# EAGLE library part TXB0108 (library ck)
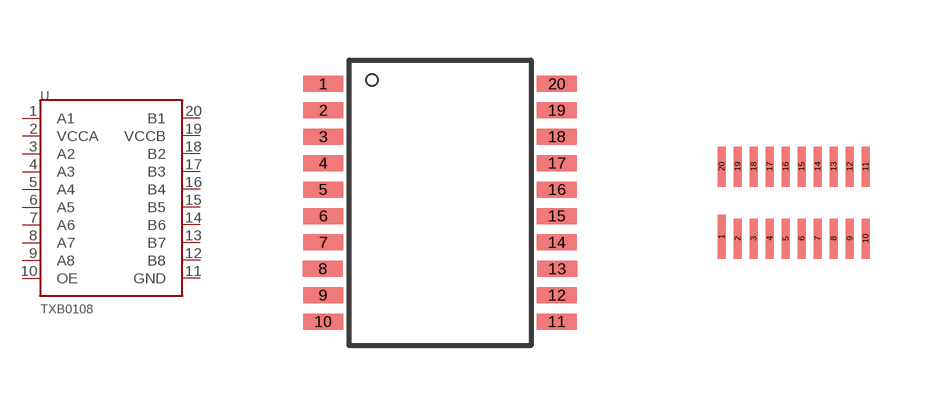
[diagram p7: symbol with the pads of TSSOP20; footprints TSSOP20, SON20]

Designator prefix U

## TXB0108PW  [TSSOP20]
1  A1
2  VCCA  pwr
3  A2
4  A3
5  A4
6  A5
7  A6
8  A7
9  A8
10  OE
11  GND  pwr
12  B8
13  B7
14  B6
15  B5
16  B4
17  B3
18  B2
19  VCCB  pwr
20  B1

## TXB0108DQS  [SON20]
1  A1
2  A2
3  A3
4  A4
5  VCCA  pwr
6  OE
7  A5
8  A6
9  A7
10  A8
11  B8
12  B7
13  B6
14  B5
15  GND  pwr
16  VCCB  pwr
17  B4
18  B3
19  B2
20  B1

## Footprint TSSOP20 (pad centres in mm)
smd 1 x 0.4: 1 -2.937,2.693; 2 -2.937,2.032; 3 -2.937,1.372; 4 -2.937,0.712; 5 -2.937,0.051; 6 -2.937,-0.609; 7 -2.937,-1.27; 8 -2.943,-1.93; 9 -2.937,-2.59; 10 -2.937,-3.251; 11 2.905,-3.251; 12 2.905,-2.59; 13 2.911,-1.93; 14 2.905,-1.27; 15 2.905,-0.609; 16 2.905,0.051; 17 2.905,0.712; 18 2.905,1.372; 19 2.905,2.032; 20 2.905,2.693

## Footprint SON20 (pad centres in mm)
smd 0.2 x 1.1: 1 0,-1.75
smd 0.2 x 1: 2 0.4,-1.8; 3 0.8,-1.8; 4 1.2,-1.8; 5 1.6,-1.8; 6 2,-1.8; 7 2.4,-1.8; 8 2.8,-1.8; 9 3.2,-1.8; 10 3.6,-1.8; 11 3.6,0; 12 3.2,0; 13 2.8,0; 14 2.4,0; 15 2,0; 16 1.6,0; 17 1.2,0; 18 0.8,0; 19 0.4,0; 20 0,0